# EAGLE library part SW-DIP7 (library Digilent)
Dip Switch, 7 position
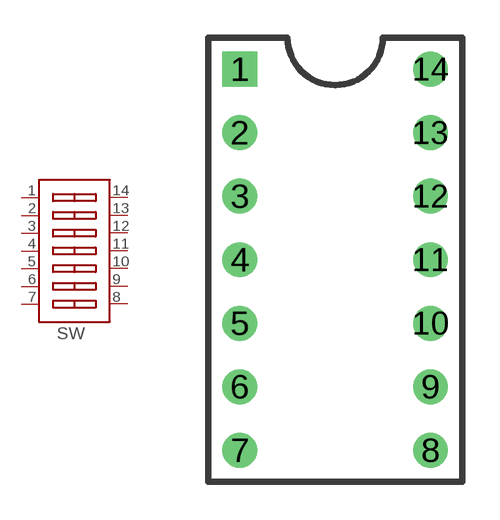
[diagram p66: symbol with the pads of DIP-14C; footprint DIP-14C]

Designator prefix SW

## SW-DIP7T  [DIP-14C]
1  1A  pas
2  2A  pas
3  3A  pas
4  4A  pas
5  5A  pas
6  6A  pas
7  7A  pas
8  7B  pas
9  6B  pas
10  5B  pas
11  4B  pas
12  3B  pas
13  2B  pas
14  1B  pas

## Footprint DIP-14C (pad centres in mm)
drill 0.889 square: 1 -3.81,7.62
drill 0.889 round: 2 -3.81,5.08; 3 -3.81,2.54; 4 -3.81,0; 5 -3.81,-2.54; 6 -3.81,-5.08; 7 -3.81,-7.62; 8 3.81,-7.62; 9 3.81,-5.08; 10 3.81,-2.54; 11 3.81,0; 12 3.81,2.54; 13 3.81,5.08; 14 3.81,7.62